# Altium footprint library Straps.PcbLib: 18 footprints (part 1 of 2)
Each footprint in its own frame and in the unit in brackets; x right, y up, seen from the top. Pads: shape width x height; smd on the part's side, far side on the other; paste and mask are expansions set on the pad; w line width, h text height; cw(c..) or ccw(c..) is an arc to the next point about the centre after c.
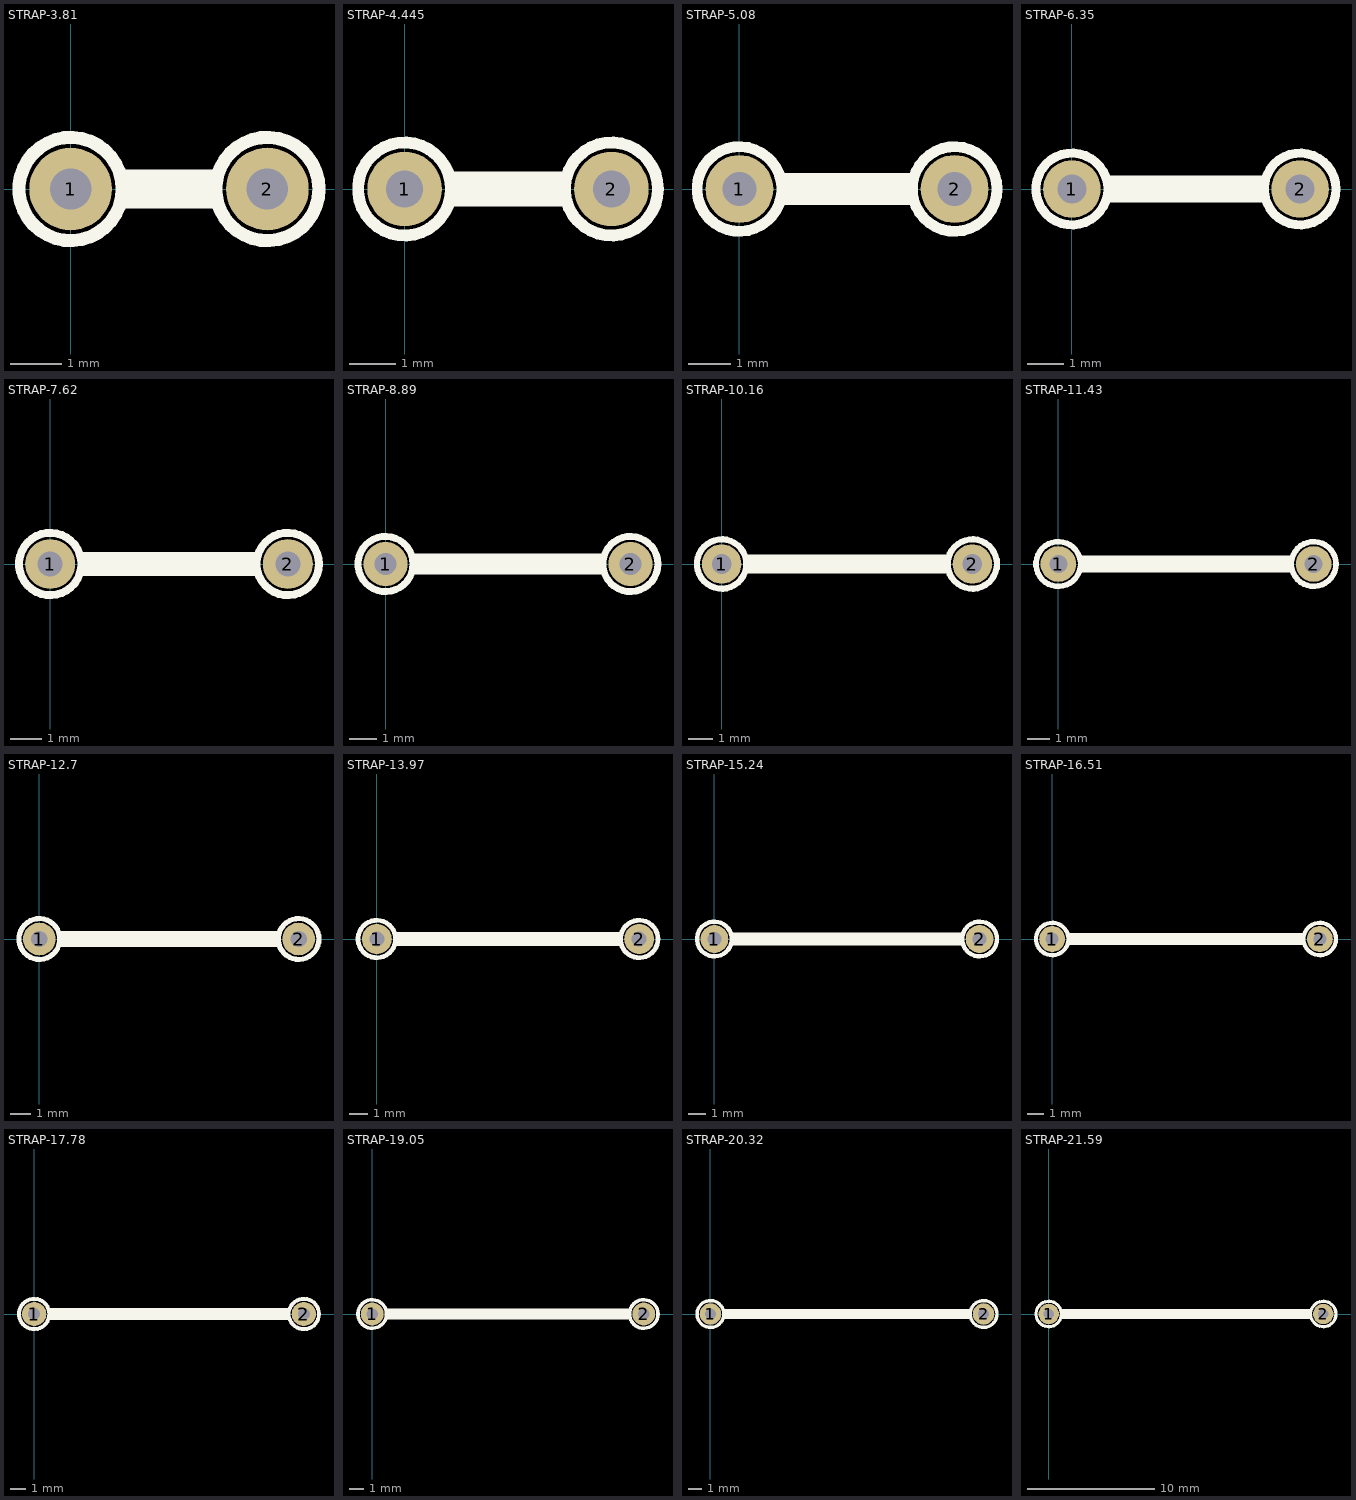
[diagram p0: the footprints below, top view; thin cyan lines are the x and y axes]

## STRAP-3.81 [mm]
pads (2):
  round 1.6 hole 0.8: 1(0,0) 2(3.81,0)
Top Overlay:
  circle w0.254: c0,0 r1
  circle w0.254: c3.81,0 r1
  lines w0.254: 1.016,0.254 2.794,0.254 2.794,-0.254 1,-0.254 1,0 2.794,0
3D body: height 0, standoff -0.8, extent 3.411,-0.4 4.21,0.4
3D body: height 0, standoff -0.8, extent -0.399,-0.4 0.4,0.4
3D body: height 0.5, standoff 0, extent -0.4,-0.398 0.4,0.401
3D body: height 0.5, standoff 0, extent 3.391,-0.401 4.191,0.399
3D body: height 0.9, standoff 0.1, extent 3.391,-0.403 4.191,0.397
3D body: height 0.9, standoff 0.1, extent -0.408,-0.388 0.392,0.411
3D body: height 0.9, standoff 0.1, extent 0.01,-0.406 3.82,0.394

## STRAP-4.445 [mm]
pads (2):
  round 1.6 hole 0.8: 1(0,0) 2(4.445,0)
Top Overlay:
  circle w0.254: c4.445,0 r1
  circle w0.254: c0,0 r1
  lines w0.254: 1.016,0.254 3.429,0.254 3.429,-0.254 1.016,-0.254 ; 3.429,0 1.016,0 ; 1.016,-0.254 1.016,0 ; 1.016,-0.254 1.016,0
3D body: height 0.9, standoff 0.1, extent 0.01,-0.406 4.455,0.394
3D body: height 0.9, standoff 0.1, extent -0.408,-0.388 0.392,0.411
3D body: height 0.9, standoff 0.1, extent 4.026,-0.403 4.826,0.397
3D body: height 0.5, standoff 0, extent 4.026,-0.401 4.826,0.399
3D body: height 0.5, standoff 0, extent -0.4,-0.398 0.4,0.401
3D body: height 0, standoff -0.8, extent -0.399,-0.4 0.4,0.4
3D body: height 0, standoff -0.8, extent 4.046,-0.4 4.845,0.4

## STRAP-5.08 [mm]
pads (2):
  round 1.6 hole 0.8: 1(0,0) 2(5.08,0)
Top Overlay:
  circle w0.254: c0,0 r1
  circle w0.254: c5.08,0 r1
  lines w0.127: 1,0 4.064,0
  lines w0.254: 1.016,0.254 4.064,0.254 4.064,-0.254 1.016,-0.254 1.016,0 3.937,0
3D body: height 0, standoff -0.8, extent 4.681,-0.4 5.48,0.4
3D body: height 0, standoff -0.8, extent -0.399,-0.4 0.4,0.4
3D body: height 0.5, standoff 0, extent -0.4,-0.398 0.4,0.401
3D body: height 0.5, standoff 0, extent 4.661,-0.401 5.461,0.399
3D body: height 0.9, standoff 0.1, extent 4.661,-0.403 5.461,0.397
3D body: height 0.9, standoff 0.1, extent -0.408,-0.388 0.392,0.411
3D body: height 0.9, standoff 0.1, extent 0.01,-0.406 5.09,0.394

## STRAP-6.35 [mm]
pads (2):
  round 1.6 hole 0.8: 1(0,0) 2(6.35,0)
Top Overlay:
  circle w0.254: c6.35,0 r1
  circle w0.254: c0,0 r1
  lines w0.254: 1.016,0.254 5.334,0.254 5.334,-0.254 1.016,-0.254 ; 5.334,0 1.016,0 ; 1.016,-0.254 1.016,0 ; 1.016,-0.254 1.016,0 ; 1.016,-0.254 1.016,0 ; 1.016,-0.254 1.016,0
3D body: height 0.9, standoff 0.1, extent 0.01,-0.403 6.36,0.394
3D body: height 0.9, standoff 0.1, extent -0.408,-0.388 0.392,0.411
3D body: height 0.9, standoff 0.1, extent 5.931,-0.403 6.731,0.397
3D body: height 0.5, standoff 0, extent 5.931,-0.401 6.731,0.399
3D body: height 0.5, standoff 0, extent -0.4,-0.398 0.4,0.401
3D body: height 0, standoff -0.8, extent -0.399,-0.4 0.4,0.4
3D body: height 0, standoff -0.8, extent 5.951,-0.4 6.75,0.4

## STRAP-7.62 [mm]
pads (2):
  round 1.6 hole 0.8: 1(0,0) 2(7.62,0)
Top Overlay:
  circle w0.254: c7.62,0 r1
  circle w0.254: c0,0 r1
  lines w0.254: 1.016,0.254 6.604,0.254 6.604,-0.254 1.016,-0.254 ; 6.604,0 1.016,0 ; 1.016,-0.254 1.016,0 ; 1.016,-0.254 1.016,0 ; 1.016,-0.254 1.016,0
3D body: height 0.9, standoff 0.1, extent 0.01,-0.403 7.63,0.394
3D body: height 0.9, standoff 0.1, extent -0.408,-0.388 0.392,0.411
3D body: height 0.9, standoff 0.1, extent 7.201,-0.403 8.001,0.397
3D body: height 0.5, standoff 0, extent 7.201,-0.401 8.001,0.399
3D body: height 0.5, standoff 0, extent -0.4,-0.398 0.4,0.401
3D body: height 0, standoff -0.8, extent -0.399,-0.4 0.4,0.4
3D body: height 0, standoff -0.8, extent 7.221,-0.4 8.02,0.4

## STRAP-8.89 [mm]
pads (2):
  round 1.6 hole 0.8: 1(0,0) 2(8.89,0)
Top Overlay:
  circle w0.254: c0,0 r1
  circle w0.254: c8.89,0 r1
  lines w0.254: 1.016,0.254 7.874,0.254 7.874,-0.254 1.016,-0.254 ; 7.874,0 1.016,0 ; 1.016,-0.254 1.016,0 ; 1.016,-0.254 1.016,0
3D body: height 0, standoff -0.8, extent 8.491,-0.4 9.29,0.4
3D body: height 0, standoff -0.8, extent -0.399,-0.4 0.4,0.4
3D body: height 0.5, standoff 0, extent -0.4,-0.398 0.4,0.401
3D body: height 0.5, standoff 0, extent 8.471,-0.401 9.271,0.399
3D body: height 0.9, standoff 0.1, extent 8.471,-0.403 9.271,0.397
3D body: height 0.9, standoff 0.1, extent -0.408,-0.388 0.392,0.411
3D body: height 0.9, standoff 0.1, extent 0.01,-0.403 8.9,0.394

## STRAP-10.16 [mm]
pads (2):
  round 1.6 hole 0.8: 1(0,0) 2(10.16,0)
Top Overlay:
  circle w0.254: c10.16,0 r1
  circle w0.254: c0,0 r1
  lines w0.254: 1,-0.254 1,0 1.016,0 ; 9.144,0 1.016,0 ; 1.016,0 1.016,-0.254 9.144,-0.254 9.144,0.254 1.016,0.254 1.016,0
3D body: height 0.9, standoff 0.1, extent 0.01,-0.403 10.17,0.394
3D body: height 0.9, standoff 0.1, extent -0.408,-0.388 0.392,0.411
3D body: height 0.9, standoff 0.1, extent 9.741,-0.403 10.541,0.397
3D body: height 0.5, standoff 0, extent 9.741,-0.401 10.541,0.399
3D body: height 0.5, standoff 0, extent -0.4,-0.398 0.4,0.401
3D body: height 0, standoff -0.8, extent -0.399,-0.4 0.4,0.4
3D body: height 0, standoff -0.8, extent 9.761,-0.4 10.56,0.4

## STRAP-11.43 [mm]
pads (2):
  round 1.6 hole 0.8: 1(0,0) 2(11.43,0)
Top Overlay:
  circle w0.254: c0,0 r1
  circle w0.254: c11.43,0 r1
  lines w0.254: 1.016,0.254 10.414,0.254 10.414,-0.254 ; 1.016,-0.254 1.016,0 ; 1.016,-0.254 10.414,-0.254 ; 1.016,-0.254 1.016,0 ; 1.016,0 10.414,0 10.414,-0.254
3D body: height 0, standoff -0.8, extent 11.031,-0.4 11.83,0.4
3D body: height 0, standoff -0.8, extent -0.399,-0.4 0.4,0.4
3D body: height 0.5, standoff 0, extent -0.4,-0.398 0.4,0.401
3D body: height 0.5, standoff 0, extent 11.011,-0.401 11.811,0.399
3D body: height 0.9, standoff 0.1, extent 11.011,-0.403 11.811,0.397
3D body: height 0.9, standoff 0.1, extent -0.408,-0.388 0.392,0.411
3D body: height 0.9, standoff 0.1, extent 0.01,-0.403 11.44,0.394

## STRAP-12.7 [mm]
pads (2):
  round 1.6 hole 0.8: 1(0,0) 2(12.7,0)
Top Overlay:
  circle w0.254: c12.7,0 r1
  circle w0.254: c0,0 r1
  lines w0.254: 1.016,0.254 11.684,0.254 11.684,-0.254 1.016,-0.254 ; 11.684,0 1.016,0 ; 1.016,-0.254 1.016,0 ; 1.016,-0.254 1.016,0
3D body: height 0.9, standoff 0.1, extent 0.01,-0.403 12.71,0.394
3D body: height 0.9, standoff 0.1, extent -0.408,-0.388 0.392,0.411
3D body: height 0.9, standoff 0.1, extent 12.281,-0.403 13.081,0.397
3D body: height 0.5, standoff 0, extent 12.281,-0.401 13.081,0.399
3D body: height 0.5, standoff 0, extent -0.4,-0.398 0.4,0.401
3D body: height 0, standoff -0.8, extent -0.399,-0.4 0.4,0.4
3D body: height 0, standoff -0.8, extent 12.301,-0.4 13.1,0.4

## STRAP-13.97 [mm]
pads (2):
  round 1.6 hole 0.8: 1(0,0) 2(13.97,0)
Top Overlay:
  circle w0.254: c13.97,0 r1
  circle w0.254: c0,0 r1
  lines w0.254: 1.016,0.254 12.954,0.254 12.954,-0.254 1.016,-0.254 ; 12.954,0 1.016,0 ; 1.016,-0.254 1.016,0 ; 1.016,-0.254 1.016,0
3D body: height 0.9, standoff 0.1, extent 0.01,-0.403 13.98,0.394
3D body: height 0.9, standoff 0.1, extent -0.408,-0.388 0.392,0.411
3D body: height 0.9, standoff 0.1, extent 13.551,-0.403 14.351,0.397
3D body: height 0.5, standoff 0, extent 13.551,-0.401 14.351,0.399
3D body: height 0.5, standoff 0, extent -0.4,-0.398 0.4,0.401
3D body: height 0, standoff -0.8, extent -0.399,-0.4 0.4,0.4
3D body: height 0, standoff -0.8, extent 13.571,-0.4 14.37,0.4

## STRAP-15.24 [mm]
pads (2):
  round 1.6 hole 0.8: 1(0,0) 2(15.24,0)
Top Overlay:
  circle w0.254: c15.24,0 r1
  circle w0.254: c0,0 r1
  lines w0.254: 1.016,0.254 14.224,0.254 14.224,-0.254 1,-0.254 1,0 14.224,0
3D body: height 0.9, standoff 0.1, extent 0.01,-0.403 15.25,0.394
3D body: height 0.9, standoff 0.1, extent -0.408,-0.388 0.392,0.411
3D body: height 0.9, standoff 0.1, extent 14.821,-0.403 15.621,0.397
3D body: height 0.5, standoff 0, extent 14.821,-0.401 15.621,0.399
3D body: height 0.5, standoff 0, extent -0.4,-0.398 0.4,0.401
3D body: height 0, standoff -0.8, extent -0.399,-0.4 0.4,0.4
3D body: height 0, standoff -0.8, extent 14.841,-0.4 15.64,0.4

## STRAP-16.51 [mm]
pads (2):
  round 1.6 hole 0.8: 1(0,0) 2(16.51,0)
Top Overlay:
  circle w0.254: c0,0 r1
  circle w0.254: c16.51,0 r1
  lines w0.254: 1.016,0.254 15.494,0.254 15.494,-0.254 1,-0.254 1,0 15.494,0
3D body: height 0, standoff -0.8, extent 16.111,-0.4 16.91,0.4
3D body: height 0, standoff -0.8, extent -0.399,-0.4 0.4,0.4
3D body: height 0.5, standoff 0, extent -0.4,-0.398 0.4,0.401
3D body: height 0.5, standoff 0, extent 16.091,-0.401 16.891,0.399
3D body: height 0.9, standoff 0.1, extent 16.091,-0.403 16.891,0.397
3D body: height 0.9, standoff 0.1, extent -0.408,-0.388 0.392,0.411
3D body: height 0.9, standoff 0.1, extent 0.01,-0.403 16.52,0.394

## STRAP-17.78 [mm]
pads (2):
  round 1.6 hole 0.8: 1(0,0) 2(17.78,0)
Top Overlay:
  circle w0.254: c17.78,0 r1
  circle w0.254: c0,0 r1
  lines w0.254: 16.764,0 1,0 ; 1,0 1,-0.254 16.764,-0.254 ; 1,0 1.016,0 1.016,0.254 16.764,0.254 ; 16.764,-0.254 16.764,0.254 ; 16.764,-0.254 16.764,0.254
3D body: height 0.9, standoff 0.1, extent 0.01,-0.403 17.79,0.394
3D body: height 0.9, standoff 0.1, extent -0.408,-0.388 0.392,0.411
3D body: height 0.9, standoff 0.1, extent 17.361,-0.403 18.161,0.397
3D body: height 0.5, standoff 0, extent 17.361,-0.401 18.161,0.399
3D body: height 0.5, standoff 0, extent -0.4,-0.398 0.4,0.401
3D body: height 0, standoff -0.8, extent -0.399,-0.4 0.4,0.4
3D body: height 0, standoff -0.8, extent 17.381,-0.4 18.18,0.4

## STRAP-19.05 [mm]
pads (2):
  round 1.6 hole 0.8: 1(0,0) 2(19.05,0)
Top Overlay:
  circle w0.254: c0,0 r1
  circle w0.254: c19.05,0 r1
  lines w0.254: 1.016,0.254 18.034,0.254 ; 18.034,0 1,0 1,-0.254 18.034,-0.254 ; 18.034,-0.254 18.034,0.254 ; 18.034,-0.254 18.034,0.254
3D body: height 0, standoff -0.8, extent 18.651,-0.4 19.45,0.4
3D body: height 0, standoff -0.8, extent -0.399,-0.4 0.4,0.4
3D body: height 0.5, standoff 0, extent -0.4,-0.398 0.4,0.401
3D body: height 0.5, standoff 0, extent 18.631,-0.401 19.431,0.399
3D body: height 0.9, standoff 0.1, extent 18.631,-0.403 19.431,0.397
3D body: height 0.9, standoff 0.1, extent -0.408,-0.388 0.392,0.411
3D body: height 0.9, standoff 0.1, extent 0.01,-0.403 19.06,0.394

## STRAP-20.32 [mm]
pads (2):
  round 1.6 hole 0.8: 1(0,0) 2(20.32,0)
Top Overlay:
  circle w0.254: c20.32,0 r1
  circle w0.254: c0,0 r1
  lines w0.254: 1.016,0.254 19.304,0.254 ; 1,-0.254 1,0 ; 1,-0.254 19.304,-0.254 ; 1,-0.254 1,0 ; 1,0 19.304,0 ; 19.304,-0.254 19.304,0.254 ; 19.304,-0.254 19.304,0 ; 19.304,0 19.304,0.254
3D body: height 0.9, standoff 0.1, extent 0.01,-0.403 20.33,0.394
3D body: height 0.9, standoff 0.1, extent -0.408,-0.388 0.392,0.411
3D body: height 0.9, standoff 0.1, extent 19.901,-0.403 20.701,0.397
3D body: height 0.5, standoff 0, extent 19.901,-0.401 20.701,0.399
3D body: height 0.5, standoff 0, extent -0.4,-0.398 0.4,0.401
3D body: height 0, standoff -0.8, extent -0.399,-0.4 0.4,0.4
3D body: height 0, standoff -0.8, extent 19.921,-0.4 20.72,0.4

## STRAP-21.59 [mm]
pads (2):
  round 1.6 hole 0.8: 1(0,0) 2(21.59,0)
Top Overlay:
  circle w0.254: c0,0 r1
  circle w0.254: c21.59,0 r1
  lines w0.254: 1.016,0.254 20.574,0.254 ; 1,-0.254 1,0 ; 1,-0.254 20.574,-0.254 20.574,0.254 ; 1,-0.254 1,0 ; 1,0 20.574,0 20.574,0.254
3D body: height 0, standoff -0.8, extent 21.191,-0.4 21.99,0.4
3D body: height 0, standoff -0.8, extent -0.399,-0.4 0.4,0.4
3D body: height 0.5, standoff 0, extent -0.4,-0.398 0.4,0.401
3D body: height 0.5, standoff 0, extent 21.171,-0.401 21.971,0.399
3D body: height 0.9, standoff 0.1, extent 21.171,-0.403 21.971,0.397
3D body: height 0.9, standoff 0.1, extent -0.408,-0.388 0.392,0.411
3D body: height 0.9, standoff 0.1, extent 0.01,-0.403 21.6,0.394